# Altium schematic symbol library cap_1206.SchLib: 1 symbol
Pins are listed as number, name and electrical type; pins without a type are passive.

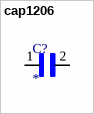
[diagram p0: symbol cap1206]

## cap1206
designator C?
MF: {'manufacturer': u'Syfer'}; MP: 1206J2K00820JCT; Package: None; Availability: Unavailable; Value: *; Price: None
footprint CAPC3216X160N
pins: 1, 2